# Altium integrated library nrf21540_qdaa.IntLib: 9 symbols
Pins are listed as number, name and electrical type; pins without a type are passive.

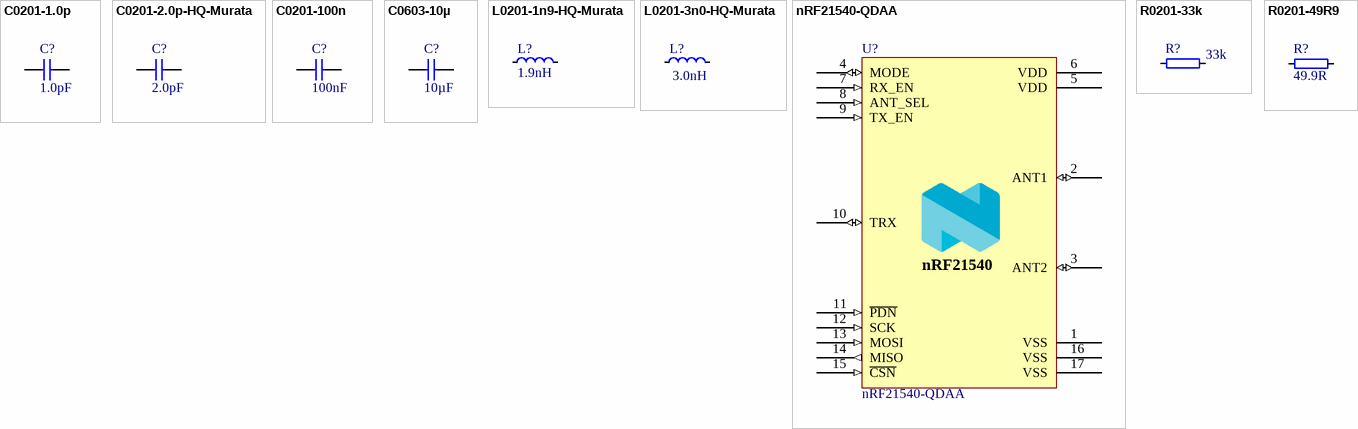
[diagram p0: symbols C0201-1.0p to R0201-49R9]

## C0201-1.0p
designator C?, comment 1.0pF
Capacitor, NP0, ±0.05pF, 50V; Part Number: C0201-1.0p; Pad Count: 2; Value: 1.0pF; Author: rsk; Note: 50V; Footprint Doc: 0201
footprint CAPC0603X03L_C
pins: 1, 2

## C0201-2.0p-HQ-Murata
designator C?, comment 2.0pF
Capacitor, NP0, ±0.05pF, 25V; Part Number: C0201-2.0p-HQ-Murata; Pad Count: 2; Value: 2.0pF; Author: rsk; Note: 25V; Footprint Doc: 0201
footprint CAPC0603X03L_C
pins: 1, 2

## C0201-100n
designator C?, comment 100nF
Capacitor, X5R, ±10%; Part Number: C0201-100n; Pad Count: 2; Note: 16V; Value: 100nF; Author: rsk; Footprint Doc: 0201
footprint CAPC0603X03L_C
pins: 1, 2

## C0603-10µ
designator C?, comment 10µF
Capacitor, X5R, ±20%; Part Number: C0603-10µ; Pad Count: 2; Note: 6.3V; Value: 10µF; Author: rsk; Footprint Doc: 0603
footprint CAPC1608X06L
pins: 1, 2

## L0201-1n9-HQ-Murata
designator L?, comment 1.9nH
Inductor, 600mA, ±0.1ｎH, 120mOhm; Part Number: L0201-1n9-HQ-Murata; Pad Count: 2; Note: -55°C ~ 125°C; Value: 1.9nH; Author: rsk; Footprint Doc: 0201
footprint INDC0603X03L_C
pins: 1, 2

## L0201-3n0-HQ-Murata
designator L?, comment 3.0nH
Inductor, 600mA, ±0.1ｎH, 120mOhm; Part Number: L0201-3n0-HQ-Murata; Pad Count: 2; Note: -55°C ~ 125°C; Value: 3.0nH; Author: rsk; Footprint Doc: 0201
footprint INDC0603X03L_C
pins: 1, 2

## nRF21540-QDAA
designator U?
Radio front-end / range extender for 2.4GHz; Note: N.A.; Pad Count: 16; Part Number: nRF21540-QDAA; Value: nRF21540-QDAA; Author: rsk; Footprint Doc: QFN-16
footprint QFN65P400X400X65_HS-17N
pins: 1 VSS (power), 2 ANT1 (io), 3 ANT2 (io), 4 MODE (io), 5 VDD (power), 6 VDD (power), 7 RX_EN (in), 8 ANT_SEL (in), 9 TX_EN (in), 10 TRX (io), 11 ~{PDN} (in), 12 SCK (in), 13 MOSI (in), 14 MISO (out), 15 ~{CSN} (in), 16 VSS (power), 17 VSS (power)
text: nRF21540

## R0201-33k
designator R?, comment 33k
Resistor, ±1%, 0.05W; Part Number: R0201-33k; Pad Count: 2; Note: Chip Res 1%; Author: rsk; Value: 33k; Footprint Doc: 0201
footprint RESC0603X03L_C
pins: 1, 2

## R0201-49R9
designator R?, comment 49.9R
Resistor, ±1%, 0.05W; Part Number: R0201-49R9; Pad Count: 2; Note: Chip Res 1%; Author: getr; Value: 49.9R; Footprint Doc: 0201
footprint RESC0603X03L_C
pins: 1, 2